# Altium schematic symbol library 1N4148.SchLib: 1 symbol
Pins are listed as number, name and electrical type; pins without a type are passive.

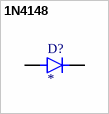
[diagram p0: symbol 1N4148]

## 1N4148
designator D?
MP: 1N4148; Package: None; Price: None; Value: *; Availability: Unavailable
footprint DIOAD753W49L380D172B
pins: A, K